# EAGLE library part 66100811622 (library WR-WTB)
WR-WTB 2.54 mm Male Vertical Shrouded Header Material Properties Insulator Material co Insulator Flammability Rating UL94 V-0 Color Black Contact Material Phosphor Bronze Contact Plating Tin General Information Operating Temperature -40 °C up to +125 °C Compliance RoHS IR 3 A Working Voltage 50 V (AC) Withstanding Voltage 500 V (AC) Contact Resistance 20 mΩ Pitch 2.54 mm Gender Male Type Vertical Packaging Properties Packaging Box Details see: www.we-online.com/en/components/products/WTB_2_54_MALE_VERTICAL_SHROUDED_HEADER_GLOW_WIRE_PLASTIC_6610XXX1622 Updated by Ella 2025-03-06 2025 (C) Würth Elektronik
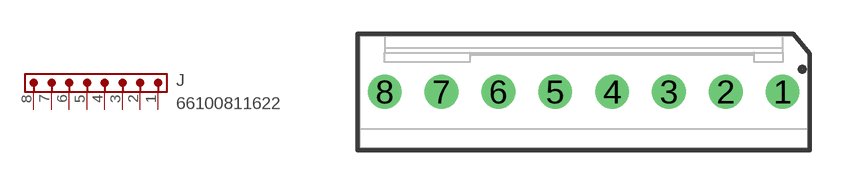
[diagram p123: symbol with the pads of 66100811622; footprint 66100811622]

Designator prefix J

## 66100811622 (CONTACT-RESISTANCE: 20mOhm; DATASHEET: https://www.we-online.com/redexpert/spec/66100811622?ae; GENDER: Male; IR: 3A; L: 20.02mm; MOUNT: THT; PACKAGING: Box; PART-NUMBER: 66100811622; PCB-CABLE-PANEL: PCB; PINS: 8; PITCH: 2.54mm; TYPE: Vertical; VALUE: 66100811622; WORKING-VOLTAGE: 50V(AC))  [66100811622]
1  1  pas
2  2  pas
3  3  pas
4  4  pas
5  5  pas
6  6  pas
7  7  pas
8  8  pas

## Footprint 66100811622 (pad centres in mm)
WR-WTB 2.54 mm Male Vertical Shrouded Header,8 Pins
drill 1: 1 8.89,0; 2 6.35,0; 3 3.81,0; 4 1.27,0; 5 -1.27,0; 6 -3.81,0; 7 -6.35,0; 8 -8.89,0